# EAGLE library part ESP32-MINI-1-N4 (library infinity_mirror_revd)
ESP32-MINI-N4
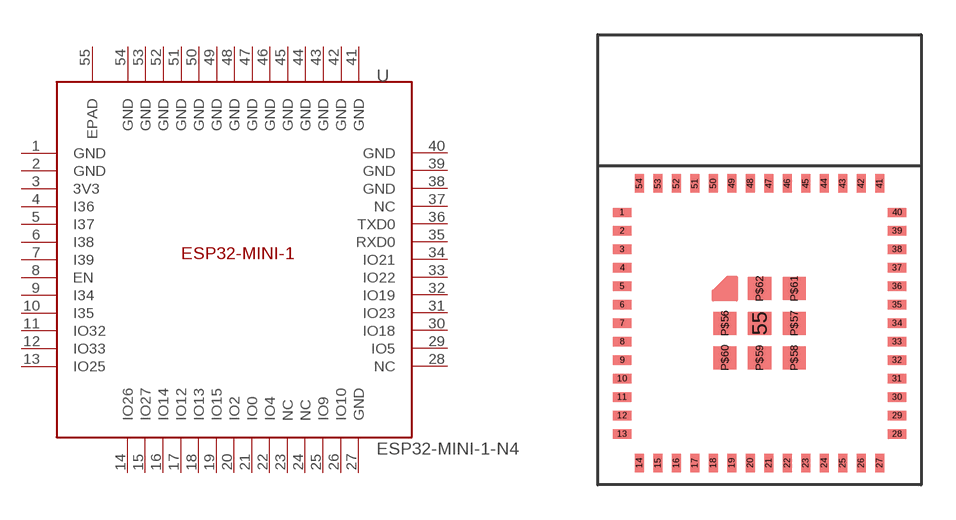
[diagram p0: symbol with the pads of ESP32-MINI-1-N4; footprint ESP32-MINI-1-N4]

Designator prefix -

## ESP32-MINI-1-N4  [ESP32-MINI-1-N4]
1  GND
2  GND
3  3V3
4  I36
5  I37
6  I38
7  I39
8  EN
9  I34
10  I35
11  IO32
12  IO33
13  IO25
14  IO26
15  IO27
16  IO14
17  IO12
18  IO13
19  IO15
20  IO2
21  IO0
22  IO4
23  NC
24  NC
25  IO9
26  IO10
27  GND
28  NC
29  IO5
30  IO18
31  IO23
32  IO19
33  IO22
34  IO21
35  RXD0
36  TXD0
37  NC
38  GND
39  GND
40  GND
41  GND
42  GND
43  GND
44  GND
45  GND
46  GND
47  GND
48  GND
49  GND
50  GND
51  GND
52  GND
53  GND
54  GND
55  EPAD

## Footprint ESP32-MINI-1-N4 (pad centres in mm)
ESP32-MINI-1-N4
smd 0.8 x 0.4: 1 -5.95,4.8; 2 -5.95,4; 3 -5.95,3.2; 4 -5.95,2.4; 5 -5.95,1.6; 6 -5.95,0.8; 7 -5.95,0; 8 -5.95,-0.8; 9 -5.95,-1.6; 10 -5.95,-2.4; 11 -5.95,-3.2; 12 -5.95,-4; 13 -5.95,-4.8; 28 5.95,-4.8; 29 5.95,-4; 30 5.95,-3.2; 31 5.95,-2.4; 32 5.95,-1.6; 33 5.95,-0.8; 34 5.95,0; 35 5.95,0.8; 36 5.95,1.6; 37 5.95,2.4; 38 5.95,3.2; 39 5.95,4; 40 5.95,4.8
smd 0.4 x 0.8: 14 -5.2,-6.05; 15 -4.4,-6.05; 16 -3.6,-6.05; 17 -2.8,-6.05; 18 -2,-6.05; 19 -1.2,-6.05; 20 -0.4,-6.05; 21 0.4,-6.05; 22 1.2,-6.05; 23 2,-6.05; 24 2.8,-6.05; 25 3.6,-6.05; 26 4.4,-6.05; 27 5.2,-6.05; 41 5.2,6.05; 42 4.4,6.05; 43 3.6,6.05; 44 2.8,6.05; 45 2,6.05; 46 1.2,6.05; 47 0.4,6.05; 48 -0.4,6.05; 49 -1.2,6.05; 50 -2,6.05; 51 -2.8,6.05; 52 -3.6,6.05; 53 -4.4,6.05; 54 -5.2,6.05
smd 1 x 1: 55 0,0; P$56 -1.5,0; P$57 1.5,0; P$58 1.5,-1.5; P$59 0,-1.5; P$60 -1.5,-1.5; P$61 1.5,1.5; P$62 0,1.5